# EAGLE library part CON_HEADER_1X40 (library dadamachines)
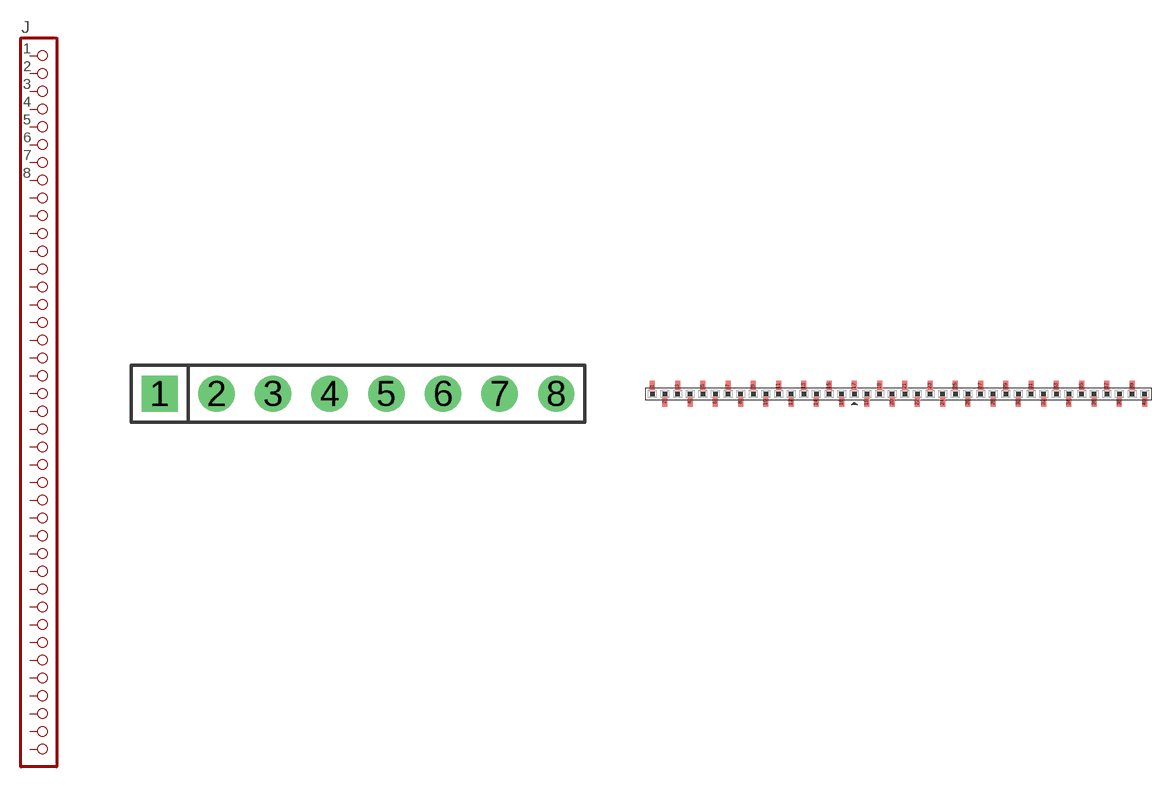
[diagram p26: symbol with the pads of M1X40; footprints M1X40, M1X40_SMD]

Designator prefix J

## CON_HEADER_1X40-PTH  [M1X40]
1  1  pas
2  2  pas
3  3  pas
4  4  pas
5  5  pas
6  6  pas
7  7  pas
8  8  pas

## CON_HEADER_1X40-SMD  [M1X40_SMD]
1  1  pas
2  2  pas
3  3  pas
4  4  pas
5  5  pas
6  6  pas
7  7  pas
8  8  pas
9  9  pas
10  10  pas
11  11  pas
12  12  pas
13  13  pas
14  14  pas
15  15  pas
16  16  pas
17  17  pas
18  18  pas
19  19  pas
20  20  pas
21  21  pas
22  22  pas
23  23  pas
24  24  pas
25  25  pas
26  26  pas
27  27  pas
28  28  pas
29  29  pas
30  30  pas
31  31  pas
32  32  pas
33  33  pas
34  34  pas
35  35  pas
36  36  pas
37  37  pas
38  38  pas
39  39  pas
40  40  pas

## Footprint M1X40 (pad centres in mm)
drill 1.02 pad 1.632 square: 1 -8.89,0
drill 1.02 pad 1.632: 2 -6.35,0; 3 -3.81,0; 4 -1.27,0; 5 1.27,0; 6 3.81,0; 7 6.35,0; 8 8.89,0

## Footprint M1X40_SMD (pad centres in mm)
1x08 0.1" header SMD, 1.00 x 1.90 pad size Mfr no: NPTC081KFXC-RC NPTC081KFXC-RC <http://www.digikey.com/product-detail/en/NPTC081KFXC-RC/S5600-ND/776058>
smd 1 x 1.9: 1 -49.53,1.65; 2 -46.99,-1.65; 3 -44.45,1.65; 4 -41.91,-1.65; 5 -39.37,1.65; 6 -36.83,-1.65; 7 -34.29,1.65; 8 -31.75,-1.65; 9 -29.21,1.65; 10 -26.67,-1.65; 11 -24.13,1.65; 12 -21.59,-1.65; 13 -19.05,1.65; 14 -16.51,-1.65; 15 -13.97,1.65; 16 -11.43,-1.65; 17 -8.89,1.65; 18 -6.35,-1.65; 19 -3.81,1.65; 20 -1.27,-1.65; 21 1.27,1.65; 22 3.81,-1.65; 23 6.35,1.65; 24 8.89,-1.65; 25 11.43,1.65; 26 13.97,-1.65; 27 16.51,1.65; 28 19.05,-1.65; 29 21.59,1.65; 30 24.13,-1.65; 31 26.67,1.65; 32 29.21,-1.65; 33 31.75,1.65; 34 34.29,-1.65; 35 36.83,1.65; 36 39.37,-1.65; 37 41.91,1.65; 38 44.45,-1.65; 39 46.99,1.65; 40 49.53,-1.65